# Altium footprint library CYLN.PcbLib: 6 footprints
Each footprint in its own frame and in the unit in brackets; x right, y up, seen from the top. Pads: shape width x height; smd on the part's side, far side on the other; paste and mask are expansions set on the pad; w line width, h text height; cw(c..) or ccw(c..) is an arc to the next point about the centre after c.
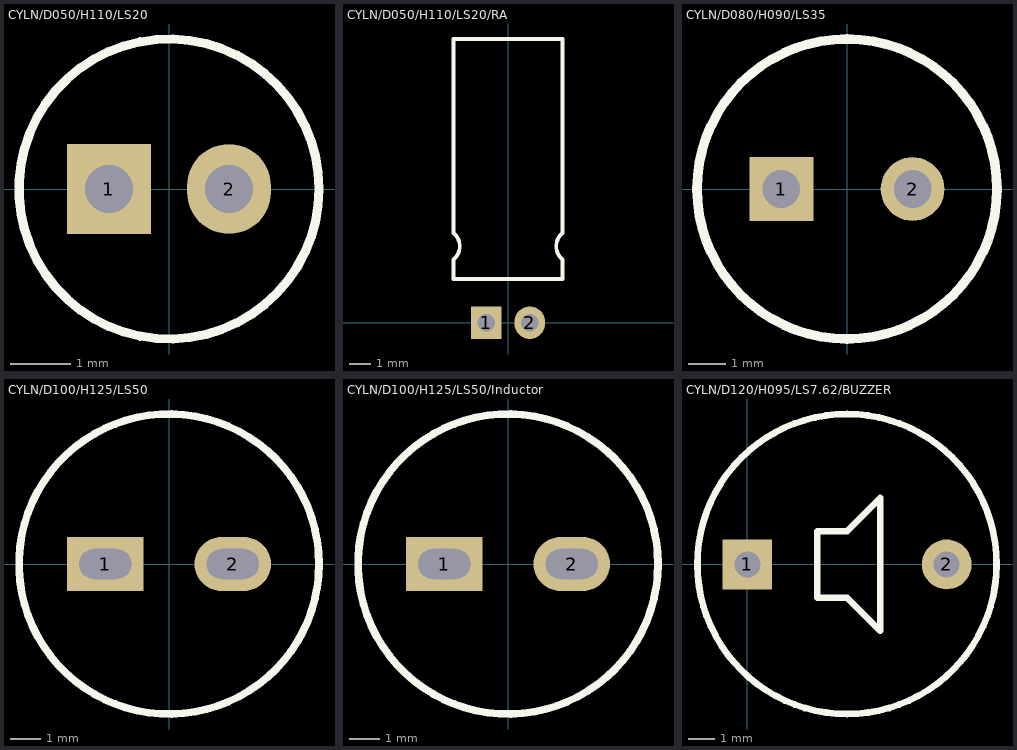
[diagram p0: the footprints below, top view; thin cyan lines are the x and y axes]

## CYLN/D050/H110/LS20 [mm] "Dia 5mm, Heigh 11mm, Lead Space 2mm"
pads (2):
  rect 1.4x1.5 hole 0.8: 1(-1,0)
  oval 1.4x1.5 hole 0.8: 2(1,0)
Top Overlay:
  circle w0.152: c0,0 r2.5
3D body: height 11.53, standoff -3.27, extent -2.525,-2.525 2.526,2.526

## CYLN/D050/H110/LS20/RA [mm] "Dia 5mm, Heigh 11mm, Lead Space 2mm, Right Angle"
pads (2):
  rect 1.4x1.5 hole 0.8: 1(-1,0)
  oval 1.4x1.5 hole 0.8: 2(1,0)
Top Overlay:
  lines w0.178: -2.5,4.1 -2.5,13 2.5,13 2.5,4.1 ; -2.492,4.106 cw(c-3,3.5) -2.492,2.894 -2.5,2.886 -2.5,2 2.5,2 2.5,2.886 2.492,2.894 cw(c3,3.5) 2.492,4.106
3D body: height 5.03, standoff -3.5, extent -2.525,-0.271 2.526,13.05

## CYLN/D080/H090/LS35 [mm] "Dia 8mm, Heigh 9mm, Lead Space 3.5mm"
pads (2):
  rect 1.7x1.7 hole 1: 1(-1.75,0)
  round 1.7 hole 1: 2(1.75,0)
Top Overlay:
  circle w0.254: c0,0 r4
3D body: height 9.91, standoff -3.17, extent -4.128,-4.127 4.127,4.128

## CYLN/D100/H125/LS50 [mm] "Dia 10mm, Heigh 12.5mm, Lead Space 5.0mm"
pads (2):
  rect 2.55x1.8 hole 1 slot 1.75 at 0 deg: 1(-2.125,0)
  oval 2.55x1.8 hole 1 slot 1.75 at 0 deg: 2(2.125,0)
Top Overlay:
  circle w0.254: c0,0 r5
3D body: height 12.78, standoff -3.73, extent -5.025,-5.025 5.026,5.026

## CYLN/D100/H125/LS50/Inductor [mm] "Dia 10mm, Heigh 12.5mm, Lead Space 5.0mm, Inductor"
pads (2):
  rect 2.55x1.8 hole 1 slot 1.75 at 0 deg: 1(-2.125,0)
  oval 2.55x1.8 hole 1 slot 1.75 at 0 deg: 2(2.125,0)
Top Overlay:
  circle w0.254: c0,0 r5
3D body: height 12.63, standoff -3.37, extent -5,-4.984 5,5.016

## CYLN/D120/H095/LS7.62/BUZZER [mil] "DC Buzzer 5V/12V 12.0mm Dia x 9.5mm H, LeadSpace 7.62mm"
pads (2):
  rect 75x75 hole 39: 1(0,0)
  round 75 hole 39: 2(300,0)
Top Overlay:
  lines w10: -75,0 ccw(c150,0) 375,0 ccw(c150,1.38) -75,0 ; 105,-50 105,-5 105,50 150,50 200,100 200,-100 150,-50 105,-50
3D body: height 379.92, standoff -177.17, extent -222.21,-236.22 386.22,236.22